# Altium schematic symbol library PCA_9685_lib.SchLib: 8 symbols
Pins are listed as number, name and electrical type; pins without a type are passive.

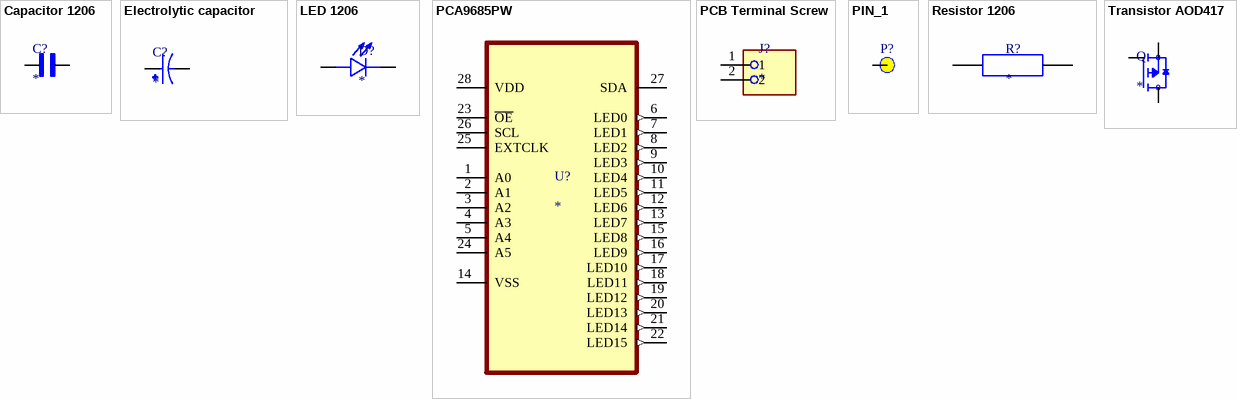
[diagram p0: symbols Capacitor 1206 to Transistor AOD417]

## Capacitor 1206
designator C?
MF: AVX; MP: 12061C225K4T2A; SnapEDA_Link: https://www.snapeda.com/parts/12061C225K4T2A/AVX/view-part/?ref=snap; Package: 3216 AVX; Value: *; Check_prices: https://www.snapeda.com/parts/12061C225K4T2A/AVX/view-part/?ref=eda
footprint Capacitor 1206
pins: 1, 2

## Electrolytic capacitor
designator C?
MP: EEUFR1A102LB; MF: Panasonic; SnapEDA_Link: https://www.snapeda.com/parts/EEUFR1A102LB/Panasonic/view-part/?ref=snap; Availability: In Stock; Price: None; Value: *; Check_prices: https://www.snapeda.com/parts/EEUFR1A102LB/Panasonic/view-part/?ref=eda; Package: RADIAL-2 Panasonic
footprint Electrolytic capacitor
pins: N, P

## LED 1206
designator D?
MF: Lite-On Inc.; MP: LTST-C230KGKT; SnapEDA_Link: https://www.snapeda.com/parts/LTST-C230KGKT/Lite-On/view-part/?ref=snap; Package: 1206 Lite-On; Value: *; Check_prices: https://www.snapeda.com/parts/LTST-C230KGKT/Lite-On/view-part/?ref=eda
footprint LED 1206
pins: A, C

## PCA9685PW
designator U?
MF: NXP USA; MP: PCA9685PW,118; SnapEDA_Link: https://www.snapeda.com/parts/PCA9685PW,118/NXP+Semiconductors/view-part/?ref=snap; Package: TSSOP-28 NXP Semiconductors; Value: *; Check_prices: https://www.snapeda.com/parts/PCA9685PW,118/NXP+Semiconductors/view-part/?ref=eda
footprint PCA9685PW
pins: 1 A0, 2 A1, 3 A2, 4 A3, 5 A4, 6 LED0 (out), 7 LED1 (out), 8 LED2 (out), 9 LED3 (out), 10 LED4 (out), 11 LED5 (out), 12 LED6 (out), 13 LED7 (out), 14 VSS, 15 LED8 (out), 16 LED9 (out), 17 LED10 (out), 18 LED11 (out), 19 LED12 (out), 20 LED13 (out), 21 LED14 (out), 22 LED15 (out), 23 ~{OE}, 24 A5, 25 EXTCLK, 26 SCL, 27 SDA, 28 VDD (power)

## PCB Terminal Screw
designator J?
MF: Phoenix Contact; MP: 1729128; SnapEDA_Link: https://www.snapeda.com/parts/1729128/Phoenix+Contact/view-part/?ref=snap; Package: None; Value: *; Check_prices: https://www.snapeda.com/parts/1729128/Phoenix+Contact/view-part/?ref=eda
footprint PCB Terminal Screw
pins: 1, 2

## PIN_1
designator P?  (no BOM)
footprint PCB_Pin_1
pins: 0 Pin

## Resistor 1206
designator R?
MP: ERJU08F4703V; Package: None; Price: None; Availability: Unavailable; Value: *
footprint Resistor 1206
pins: 1, 2

## Transistor AOD417
designator Q
MP: AOD417; MF: Alpha &; SnapEDA_Link: https://www.snapeda.com/parts/AOD417/Alpha%20%26%20Omega%20Semiconductor%20Inc./view-part/454934/?ref=snap; Availability: Unavailable; Price: None; Package: TO-252 Alpha &amp; Omega Semiconductor; Value: *
footprint Transistor AOD417
pins: 1 G, 3 S, 4 D